# EAGLE library part CON_53047-07 (library SCADA_CUSTOM_LIBRARY)
CONNECTOR wire to board 1.25 mm (.049 inch) pitch header
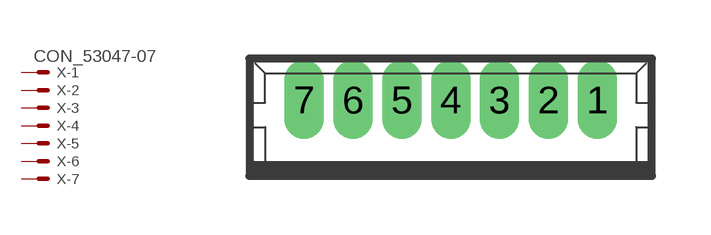
[diagram p1: symbol with the pads of 53047-07; footprint 53047-07]

Designator prefix X; gates -1=MV -2=M -3=M -4=M -5=M -6=M -7=M

## CON_53047-07047 (MF: MOLEX; MPN: 53047-0710-C; OC_FARNELL: 9732870; OC_NEWARK: 11M0149)  [53047-07]
1  -1:S  pas
2  -2:S  pas
3  -3:S  pas
4  -4:S  pas
5  -5:S  pas
6  -6:S  pas
7  -7:S  pas

## Footprint 53047-07 (pad centres in mm)
1.25mm Pitch PicoBlade™ Wire-to-Board Header, Vertical, with Friction Lock, 7 Circuits Datasheet <http://www.molex.com/pdm_docs/sd/530470710_sd.pdf>
drill 0.5 pad 0.698 long: 1 3.75,0.45; 2 2.5,0.45; 3 1.25,0.45; 4 0,0.45; 5 -1.25,0.45; 6 -2.5,0.45; 7 -3.75,0.45